# Altium schematic symbol library CUI.SchLib: 2 symbols
Pins are listed as number, name and electrical type; pins without a type are passive.

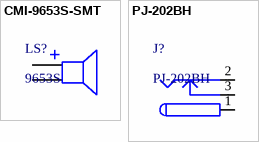
[diagram p0: symbols CMI-9653S-SMT to PJ-202BH]

## CMI-9653S-SMT
designator LS?, comment 9653S
pins: 1, 2

## PJ-202BH
designator J?
pins: 1 (power), 2 (power), 3 (power)